# Altium footprint library Miscellaneous.PcbLib: 5 footprints
Each footprint in its own frame and in the unit in brackets; x right, y up, seen from the top. Pads: shape width x height; smd on the part's side, far side on the other; paste and mask are expansions set on the pad; w line width, h text height; cw(c..) or ccw(c..) is an arc to the next point about the centre after c.
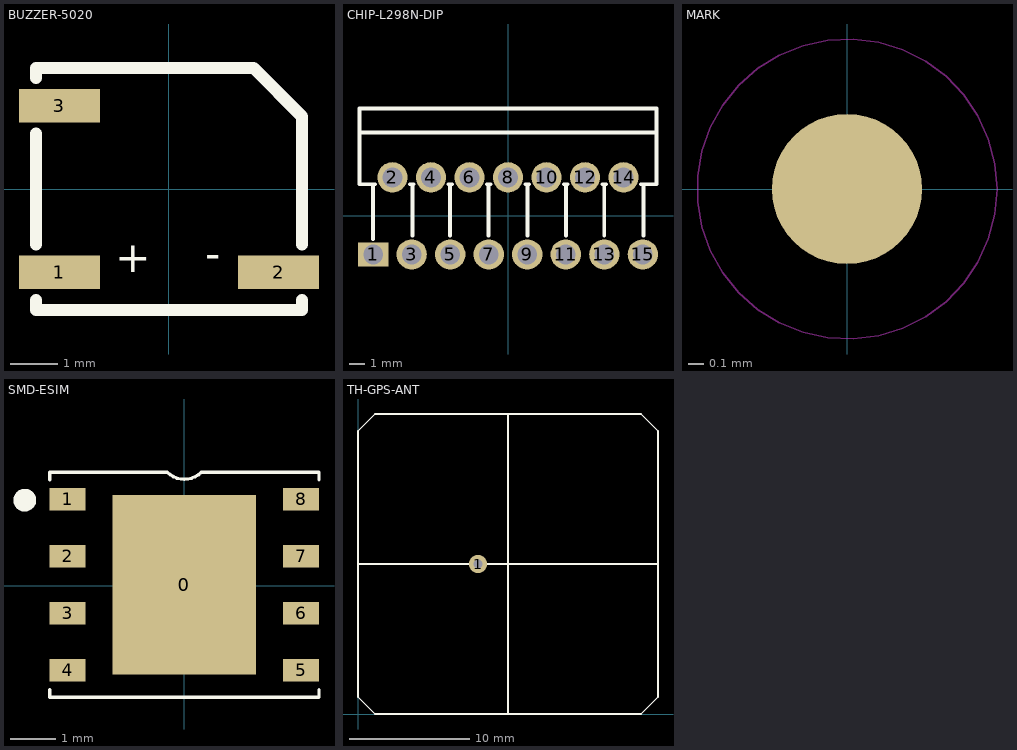
[diagram p0: the footprints below, top view; thin cyan lines are the x and y axes]

## BUZZER-5020 [mm] "Paster Buzzer"
pads (3):
  rect 1.699x0.701 smd mask+0.051: 1(-2.3,-1.75) 2(2.3,-1.75) 3(-2.3,1.75)
Top Overlay:
  lines w0.254: -2.795,-2.332 -2.795,-2.54 2.793,-2.54 2.793,-2.332 ; -2.795,-1.168 -2.795,1.168 ; -2.795,2.332 -2.795,2.54 1.777,2.54 2.793,1.524 2.793,-1.168
  text "-" at 0.761,-1.177 h0.65
  text "+" at -1.126,-1.187 h0.65
Mechanical 6:
  region: 1.586,-1.714 2.475,-1.714 2.475,-1.841 1.586,-1.841
3D body "User Library-BEEP-5020.step": height 2.1, standoff 0, extent -2.61,-2.623 2.59,2.577

## CHIP-L298N-DIP [mm] "CHIP"
pads (15):
  rect 2x1.6 hole 1.3: 1(-8.89,-2.54)
  round 2 hole 1.3: 2(-7.62,2.54) 3(-6.35,-2.54) 4(-5.08,2.54) 5(-3.81,-2.54) 6(-2.54,2.54) 7(-1.27,-2.54) 8(0,2.54) 9(1.27,-2.54) 10(2.54,2.54) 11(3.81,-2.54) 12(5.08,2.54) 13(6.35,-2.54) 14(7.62,2.54) 15(8.89,-2.54)
Top Overlay:
  lines w0.254: -9.8,5.49 9.8,5.49 ; -8.89,-1.524 -8.89,1.954 ; -8.766,2.09 -9.8,2.09 -9.8,7.09 9.8,7.09 9.8,2.09 8.766,2.09 ; -6.474,2.09 -6.226,2.09 ; -6.308,-1.31 -6.308,2.09 ; -3.934,2.09 -3.686,2.09 ; -3.819,-1.31 -3.819,2.09 ; -1.394,2.09 -1.146,2.09 ; -1.279,-1.31 -1.279,2.09 ; 1.146,2.09 1.394,2.09 ; 1.287,-1.31 1.287,2.09 ; 3.686,2.09 3.934,2.09 ; 3.827,-1.31 3.827,2.09 ; 6.226,2.09 6.474,2.09 ; 6.341,-1.31 6.341,2.09 ; 8.932,-1.31 8.932,2.09
3D body "User Library-Multiwatt15V.step": height 21.3, standoff -1, extent -9.8,-2.8 9.8,7.09

## MARK [mm]
pads (1):
  round 1 smd mask+0.5: ""(0,0)
Keep-Out Layer:
  circle w0.01: c0,0 r1

## SMD-ESIM [mm]
pads (9):
  rect 3.2x4 smd: 0(0,0.023)
  rect 0.8x0.5 smd: 1(-2.6,1.928) 2(-2.6,0.658) 3(-2.6,-0.612) 4(-2.6,-1.882) 5(2.6,-1.882) 6(2.6,-0.612) 7(2.6,0.658) 8(2.6,1.928)
Top Overlay:
  circle w0.254: c-3.556,1.905 r0.127
  lines w0.076: -3,-2.313 -3,-2.482 3,-2.482 3,-2.313 ; -3,2.36 -3,2.528 ; -0.762,2.528 -3,2.528 ; 0.762,2.528 3,2.528 ; 3,2.36 3,2.528 ; -3,2.528 -0.381,2.528 ccw(c0,2.909) 0.381,2.528 3,2.528
3D body "VFDFN-8.STEP": height 0.76, standoff -0.01, extent -3.01,-2.487 3.01,2.533

## TH-GPS-ANT [mil]
pads (1):
  round 60 hole 30: 1(393.7,492.13)
Top Overlay:
  lines w5: 0,55.67 0,928.58 ; 0,492.13 984.25,492.13 ; 0.08,55.59 55.67,0 928.58,0 984.17,55.59 ; 0.08,928.66 55.67,984.25 928.58,984.25 984.17,928.66 ; 492.13,0 492.13,984.25 ; 984.25,55.67 984.25,928.58
3D body "零件1.STEP": height 98.43, standoff -70.87, extent 0,0 984.25,984.25